# Altium footprint library mainboard.PcbLib: 25 footprints (part 1 of 2)
Each footprint in its own frame and in the unit in brackets; x right, y up, seen from the top. Pads: shape width x height; smd on the part's side, far side on the other; paste and mask are expansions set on the pad; w line width, h text height; cw(c..) or ccw(c..) is an arc to the next point about the centre after c.
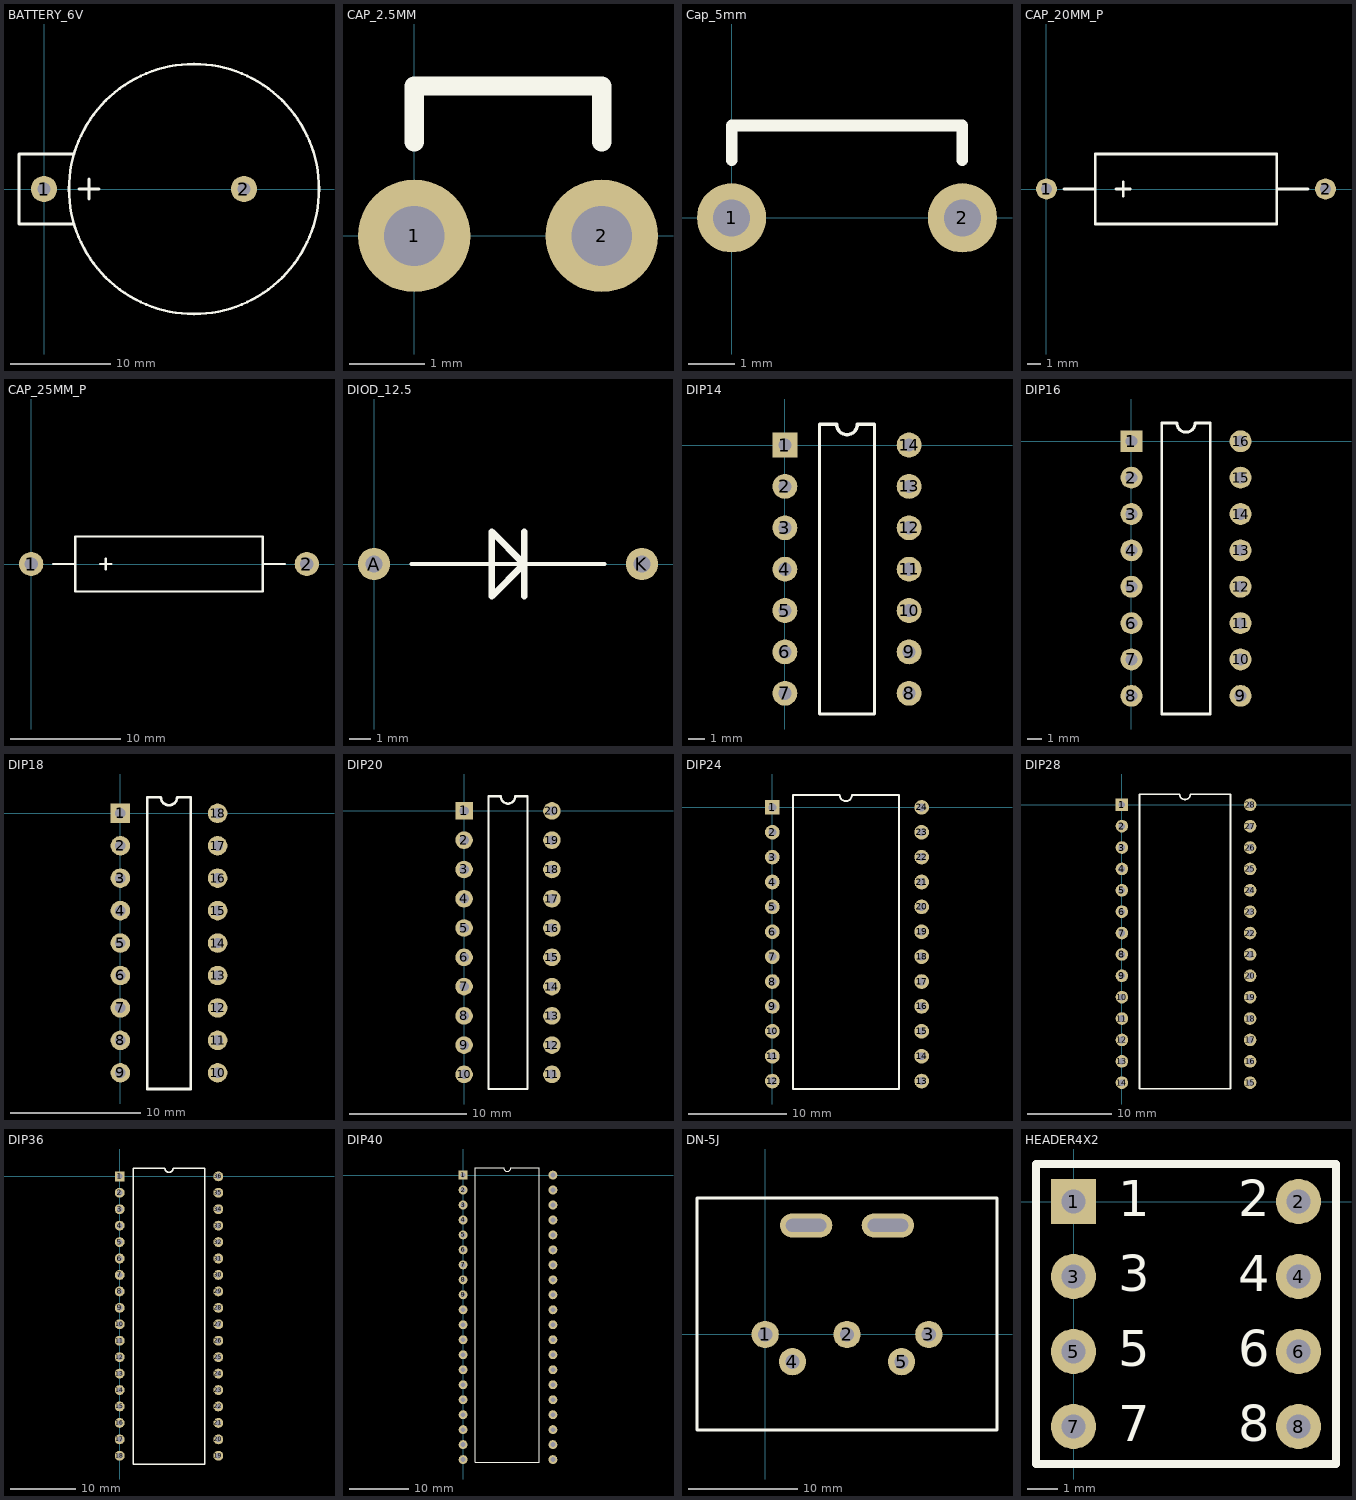
[diagram p0: the footprints below, top view; thin cyan lines are the x and y axes]

## BATTERY_6V [mm]
pads (2):
  round 2.6 hole 1.3: 1(0,0) 2(20,0)
Top Overlay:
  circle w0.254: c15,0 r12.5
  lines w0.254: 3,-3.5 -2.5,-3.5 -2.5,3.5 3,3.5 ; 3.5,0 5.5,0 ; 4.5,-1 4.5,1
3D body "battery.STEP": height 8.71, standoff -3.46, extent -2.681,-11.5 24.75,11.5

## CAP_2.5MM [mm]
pads (2):
  round 1.5 hole 0.8: 1(0,0) 2(2.5,0)
Top Overlay:
  lines w0.254: 0,1.25 0,2 2.5,2 2.5,1.25

## Cap_5mm [mm]
pads (2):
  round 1.5 hole 0.8: 1(0,0) 2(5,0)
Top Overlay:
  lines w0.254: 0,1.25 0,2 5,2 5,1.25
3D body "cap5.STEP": height 8, standoff -2.5, extent -1.25,-2.25 6.25,2.25

## CAP_20MM_P [mm]
pads (2):
  round 1.5 hole 0.8: 1(0,0) 2(20,0)
Top Overlay:
  lines w0.2: 1.25,0 3.5,0 ; 4.992,0 6.008,0 ; 5.5,-0.508 5.5,0.508 ; 16.5,0 18.75,0 ; 3.5,-2.5 3.5,0.275 3.5,2.5 16.5,2.5 16.5,-2.5 3.5,-2.5
Mechanical 13:
  text ".Comment" at 7,-0.5 h1.52

## CAP_25MM_P [mm]
pads (2):
  round 2.2 hole 1.2: 1(0,0) 2(25,0)
Top Overlay:
  lines w0.2: 2,0 4,0 ; 6.262,0 7.278,0 ; 6.77,-0.508 6.77,0.508 ; 21,0 23,0 ; 4,-2.5 4,-0.075 4,2.5 21,2.5 21,-2.5 4,-2.5
Mechanical 13:
  text ".Comment" at 8.5,-0.5 h1.52

## DIOD_12.5 [mm]
pads (2):
  round 1.5 hole 0.8: A(0,0) K(12.5,0)
Top Overlay:
  lines w0.2: 1.75,0 10.75,0
  lines w0.3: 7,-1.5 7,1.5 ; 5.5,-1.5 7,0 5.5,1.5 5.5,-1.5

## DIP14 [mm]
pads (14):
  rect 1.5x1.5 hole 0.8: 1(0,0)
  round 1.5 hole 0.8: 2(0,-2.5) 3(0,-5) 4(0,-7.5) 5(0,-10) 6(0,-12.5) 7(0,-15) 8(7.5,-15) 9(7.5,-12.5) 10(7.5,-10) 11(7.5,-7.5) 12(7.5,-5) 13(7.5,-2.5) 14(7.5,0)
Top Overlay:
  lines w0.2: 2.085,-16.25 5.415,-16.25 5.415,1.25 4.375,1.25 cw(c3.75,1.25) 3.125,1.25 2.085,1.25 2.085,-16.25
Mechanical 13:
  text ".Comment" at 3,-0.5 h1.52
3D body "dip14.step": height 3.69, standoff -3.29, extent -0.241,-17.018 7.759,2.032

## DIP16 [mm]
pads (16):
  rect 1.5x1.5 hole 0.8: 1(0,0)
  round 1.5 hole 0.8: 2(0,-2.5) 3(0,-5) 4(0,-7.5) 5(0,-10) 6(0,-12.5) 7(0,-15) 8(0,-17.5) 9(7.5,-17.5) 10(7.5,-15) 11(7.5,-12.5) 12(7.5,-10) 13(7.5,-7.5) 14(7.5,-5) 15(7.5,-2.5) 16(7.5,0)
Top Overlay:
  lines w0.2: 2.085,-18.75 5.415,-18.75 5.415,1.25 4.375,1.25 cw(c3.75,1.25) 3.125,1.25 2.085,1.25 2.085,-18.75
Mechanical 13:
  text ".Comment" at 3,-0.5 h1.52
3D body "dip16.STEP": height 4.94, standoff -2.7, extent -0.215,-19.765 7.655,2.235

## DIP18 [mm]
pads (18):
  rect 1.5x1.5 hole 0.8: 1(0,0)
  round 1.5 hole 0.8: 2(0,-2.5) 3(0,-5) 4(0,-7.5) 5(0,-10) 6(0,-12.5) 7(0,-15) 8(0,-17.5) 9(0,-20) 10(7.5,-20) 11(7.5,-17.5) 12(7.5,-15) 13(7.5,-12.5) 14(7.5,-10) 15(7.5,-7.5) 16(7.5,-5) 17(7.5,-2.5) 18(7.5,0)
Top Overlay:
  lines w0.2: 2.085,-21.25 5.415,-21.25 5.415,1.25 4.375,1.25 cw(c3.75,1.25) 3.125,1.25 2.085,1.25 2.085,-21.25
Mechanical 13:
  text ".Comment" at 3,-0.5 h1.52
3D body "dip18.step": height 5.08, standoff -2.49, extent -0.285,-21.445 7.585,1.545

## DIP20 [mm]
pads (20):
  rect 1.5x1.5 hole 0.8: 1(0,0)
  round 1.5 hole 0.8: 2(0,-2.5) 3(0,-5) 4(0,-7.5) 5(0,-10) 6(0,-12.5) 7(0,-15) 8(0,-17.5) 9(0,-20) 10(0,-22.5) 11(7.5,-22.5) 12(7.5,-20) 13(7.5,-17.5) 14(7.5,-15) 15(7.5,-12.5) 16(7.5,-10) 17(7.5,-7.5) 18(7.5,-5) 19(7.5,-2.5) 20(7.5,0)
Top Overlay:
  lines w0.2: 2.085,-23.75 2.085,1.25 3.125,1.25 ccw(c3.75,1.25) 4.375,1.25 5.415,1.25 5.415,-23.75 2.085,-23.75
Mechanical 13:
  text ".Comment" at 3,-4.5 h1.52
3D body "dip20.step": height 4.57, standoff -3.81, extent -0.21,-24.47 7.61,2.07

## DIP24 [mm]
pads (24):
  rect 1.5x1.5 hole 0.8: 1(0,0)
  round 1.5 hole 0.8: 2(0,-2.54) 3(0,-5.08) 4(0,-7.62) 5(0,-10.16) 6(0,-12.7) 7(0,-15.24) 8(0,-17.78) 9(0,-20.32) 10(0,-22.86) 11(0,-25.4) 12(0,-27.94) 13(15.24,-27.94) 14(15.24,-25.4) 15(15.24,-22.86) 16(15.24,-20.32) 17(15.24,-17.78) 18(15.24,-15.24) 19(15.24,-12.7) 20(15.24,-10.16) 21(15.24,-7.62) 22(15.24,-5.08) 23(15.24,-2.54) 24(15.24,0)
Top Overlay:
  lines w0.2: 2.085,-28.75 12.915,-28.75 12.915,1.25 8.125,1.25 cw(c7.5,1.25) 6.875,1.25 2.085,1.25 2.085,-28.75
Mechanical 13:
  text ".Comment" at 7,-7 h1.52
3D body "dip24.step": height 5.09, standoff -3.81, extent -0.22,-29.93 15.22,2.33

## DIP28 [mm]
pads (28):
  rect 1.5x1.5 hole 0.8: 1(0,0)
  round 1.5 hole 0.8: 2(0,-2.54) 3(0,-5.08) 4(0,-7.62) 5(0,-10.16) 6(0,-12.7) 7(0,-15.24) 8(0,-17.78) 9(0,-20.32) 10(0,-22.86) 11(0,-25.4) 12(0,-27.94) 13(0,-30.48) 14(0,-33.02) 15(15.24,-33.02) 16(15.24,-30.48) 17(15.24,-27.94) 18(15.24,-25.4) 19(15.24,-22.86) 20(15.24,-20.32) 21(15.24,-17.78) 22(15.24,-15.24) 23(15.24,-12.7) 24(15.24,-10.16) 25(15.24,-7.62) 26(15.24,-5.08) 27(15.24,-2.54) 28(15.24,0)
Top Overlay:
  lines w0.2: 2.085,-33.75 12.915,-33.75 12.915,1.25 8.125,1.25 cw(c7.5,1.25) 6.875,1.25 2.085,1.25 2.085,-33.75
Mechanical 13:
  text ".Comment" at 7,-10 h1.52

## DIP36 [mm]
pads (36):
  rect 1.5x1.5 hole 0.8: 1(0,0)
  round 1.5 hole 0.8: 2(0,-2.5) 3(0,-5) 4(0,-7.5) 5(0,-10) 6(0,-12.5) 7(0,-15) 8(0,-17.5) 9(0,-20) 10(0,-22.5) 11(0,-25) 12(0,-27.5) 13(0,-30) 14(0,-32.5) 15(0,-35) 16(0,-37.5) 17(0,-40) 18(0,-42.5) 19(15,-42.5) 20(15,-40) 21(15,-37.5) 22(15,-35) 23(15,-32.5) 24(15,-30) 25(15,-27.5) 26(15,-25) 27(15,-22.5) 28(15,-20) 29(15,-17.5) 30(15,-15) 31(15,-12.5) 32(15,-10) 33(15,-7.5) 34(15,-5) 35(15,-2.5) 36(15,0)
Top Overlay:
  lines w0.2: 2.085,-43.75 12.915,-43.75 12.915,1.25 8.125,1.25 cw(c7.5,1.25) 6.875,1.25 2.085,1.25 2.085,-43.75
Mechanical 13:
  text ".Comment" at 7,-14.5 h1.52

## DIP40 [mm]
pads (40):
  rect 1.5x1.5 hole 0.8: 1(0,0)
  round 1.5 hole 0.8: 2(0,-2.54) 3(0,-5.08) 4(0,-7.62) 5(0,-10.16) 6(0,-12.7) 7(0,-15.24) 8(0,-17.78) 9(0,-20.32) 10(0,-22.86) 11(0,-25.4) 12(0,-27.94) 13(0,-30.48) 14(0,-33.02) 15(0,-35.56) 16(0,-38.1) 17(0,-40.64) 18(0,-43.18) 19(0,-45.72) 20(0,-48.26) 21(15.24,-48.26) 22(15.24,-45.72) 23(15.24,-43.18) 24(15.24,-40.64) 25(15.24,-38.1) 26(15.24,-35.56) 27(15.24,-33.02) 28(15.24,-30.48) 29(15.24,-27.94) 30(15.24,-25.4) 31(15.24,-22.86) 32(15.24,-20.32) 33(15.24,-17.78) 34(15.24,-15.24) 35(15.24,-12.7) 36(15.24,-10.16) 37(15.24,-7.62) 38(15.24,-5.08) 39(15.24,-2.54) 40(15.24,0)
Top Overlay:
  lines w0.2: 2.085,-48.75 2.085,1.25 6.875,1.25 ccw(c7.5,1.25) 8.125,1.25 12.915,1.25 12.915,-48.75 2.085,-48.75
Mechanical 13:
  text ".Comment" at 7,-18 h1.52

## DN-5J [mm]
pads (7):
  round 2.5 hole 1.3: 1(0,0)
  round 2.5 hole 1.3 mask+0.102: 2(7.5,0) 3(15,0) 4(2.5,-2.5) 5(12.5,-2.5)
  oval 4.8x2.2 hole 1.2 slot 3.7 at 0 deg mask+0.102: ""(3.75,10) ""(11.25,10)
Top Overlay:
  lines w0.3: -6.25,-8.75 -6.25,12.5 21.25,12.5 21.25,-8.75 -6.25,-8.75

## HEADER4X2 [mm]
pads (8):
  rect 1.5x1.5 hole 0.8: 1(0,0)
  round 1.5 hole 0.8: 2(7.5,0) 3(0,-2.5) 4(7.5,-2.5) 5(0,-5) 6(7.5,-5) 7(0,-7.5) 8(7.5,-7.5)
Top Overlay:
  lines w0.254: -1.25,-8.75 -1.25,1.25 8.75,1.25 8.75,-8.75 -1.25,-8.75
  text "8" at 5.5,-8 h1.2
  text "7" at 1.5,-8 h1.2
  text "6" at 5.5,-5.5 h1.2
  text "5" at 1.5,-5.5 h1.2
  text "4" at 5.5,-3 h1.2
  text "3" at 1.5,-3 h1.2
  text "2" at 5.5,-0.5 h1.2
  text "1" at 1.5,-0.5 h1.2